# EAGLE library part MW_LDD-700LS (library LEDCurrentDrivers)
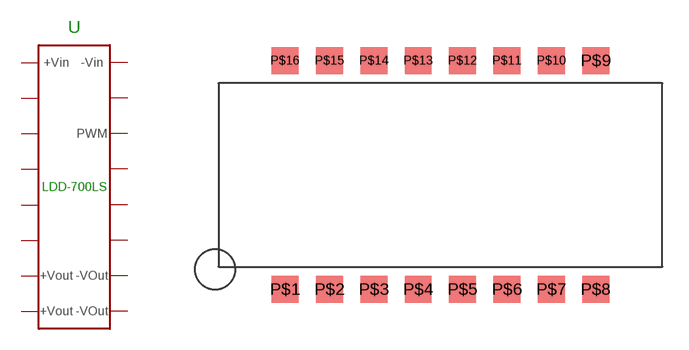
[diagram p1: symbol with the pads of MW_LDD-700LS; footprint MW_LDD-700LS]

Designator prefix -

## MW_LDD-700LS  [MW_LDD-700LS]
P$1  P$1
P$2  P$2
P$3  P$3
P$4  P$4
P$5  P$5
P$6  P$6
P$7  P$7
P$8  P$8
P$9  P$9
P$10  P$10
P$11  P$11
P$12  P$12
P$13  P$13
P$14  P$14
P$15  P$15
P$16  P$16

## Footprint MW_LDD-700LS (pad centres in mm)
smd 1.54 x 1.54: P$1 -8.89,-6.55; P$2 -6.35,-6.55; P$3 -3.81,-6.55; P$4 -1.27,-6.55; P$5 1.27,-6.55; P$6 3.81,-6.55; P$7 6.35,-6.55; P$8 8.89,-6.55; P$9 8.89,6.55; P$10 6.35,6.55; P$11 3.81,6.55; P$12 1.27,6.55; P$13 -1.27,6.55; P$14 -3.81,6.55; P$15 -6.35,6.55; P$16 -8.89,6.55